# Altium footprint library transist_footp.PcbLib: 40 footprints (part 2 of 3)
Each footprint in its own frame and in the unit in brackets; x right, y up, seen from the top. Pads: shape width x height; smd on the part's side, far side on the other; paste and mask are expansions set on the pad; w line width, h text height; cw(c..) or ccw(c..) is an arc to the next point about the centre after c.
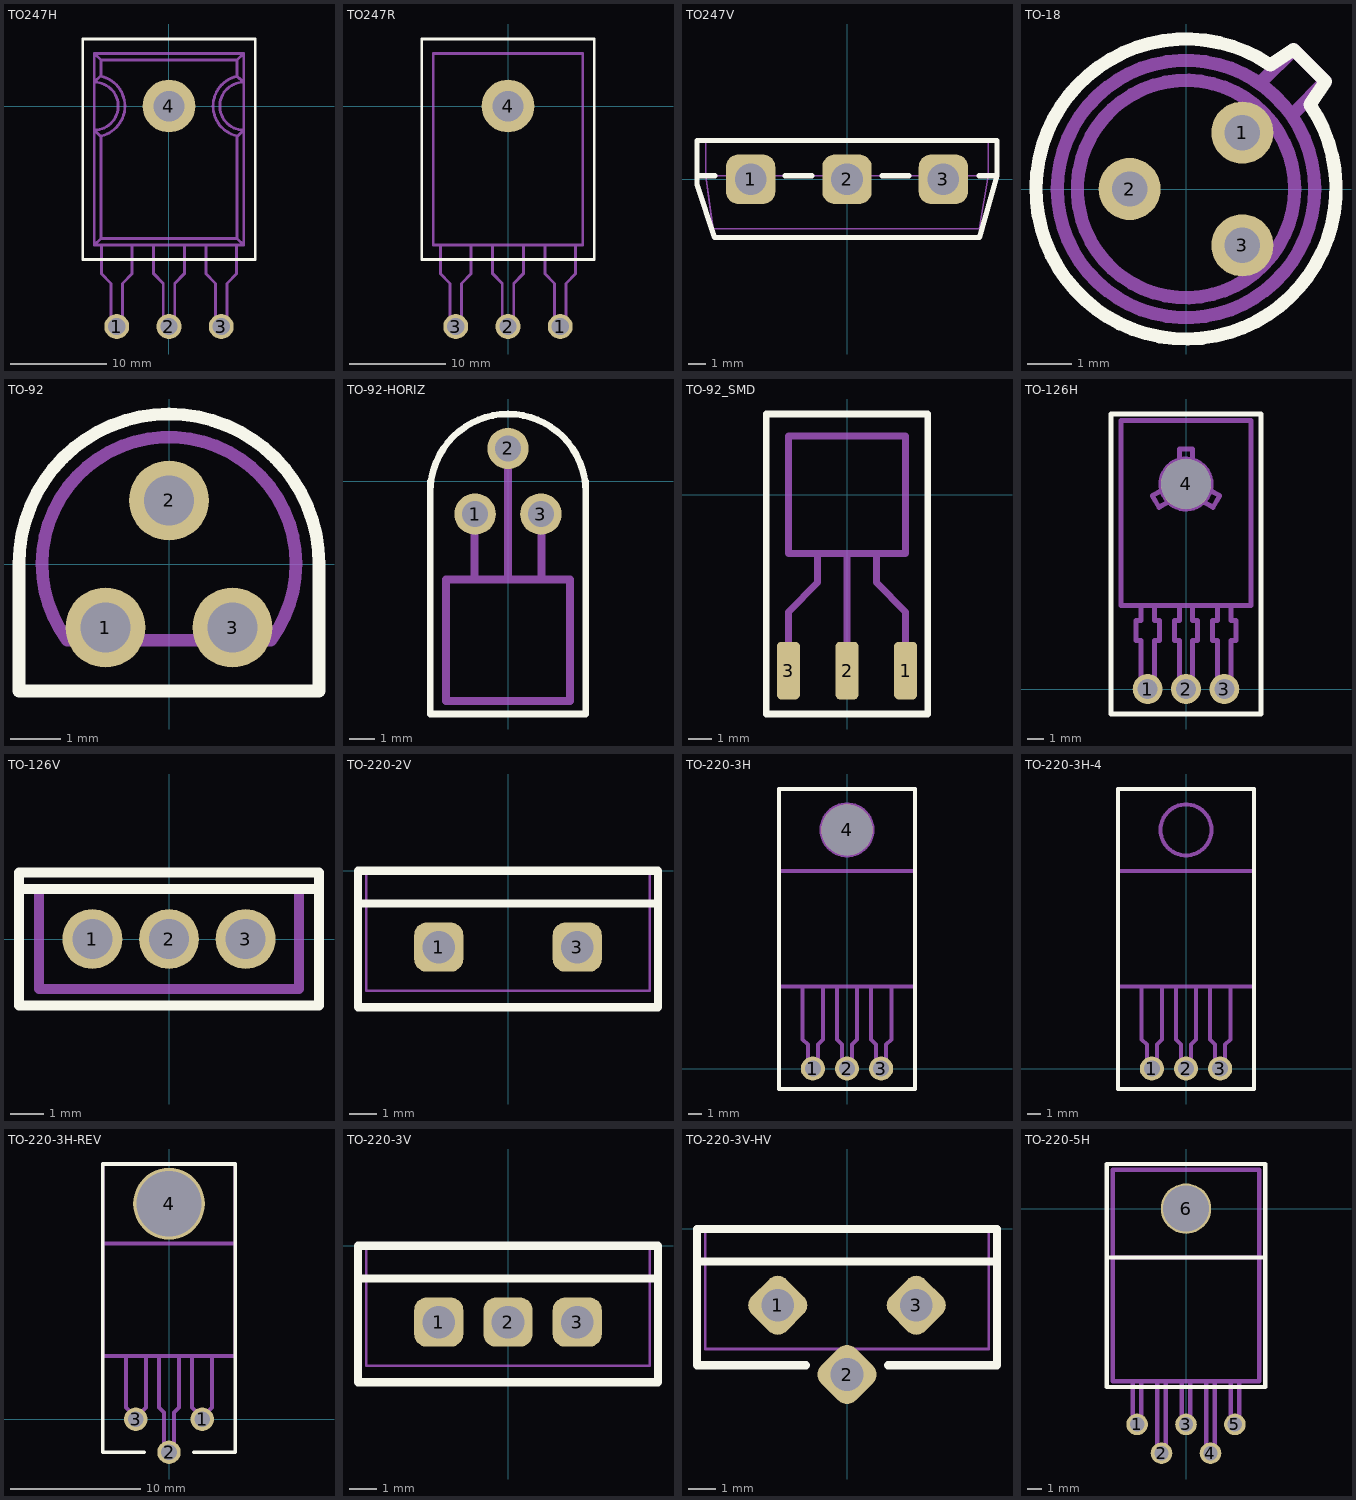
[diagram p1: the footprints below, top view; thin cyan lines are the x and y axes]

## TO247H [mm]
pads (4):
  round 2.6 hole 1.8: 1(-5.45,-23) 2(0,-23) 3(5.45,-23)
  round 5.5 hole 3.2 unplated: 4(0,0)
Top Overlay:
  lines w0.3: -9,-16 9,-16 9,7 -9,7 -9,-16
Mechanical 1:
  circle w0.3: c0,0 r1.8
  lines w0.3: -7.118,3.127 cw(c-7.8,0) -7.096,-3.122 ; -7.05,-14.5 -7.05,-17.5 -6.05,-18.5 -6.05,-23.5 -4.85,-23.5 -4.85,-18.5 -3.85,-17.5 -3.85,-14.5 ; -1.6,-14.5 -1.6,-17.5 -0.6,-18.5 -0.6,-23.5 0.6,-23.5 0.6,-18.5 1.6,-17.5 1.6,-14.5 ; 3.85,-14.5 3.85,-17.5 4.85,-18.5 4.85,-23.5 6.05,-23.5 6.05,-18.5 7.05,-17.5 7.05,-14.5 ; 7.1,3.1 7.8,2.5 ccw(c7.8,0) 7.8,-2.5 7.1,-3.2 7.1,-13.8 ; 7.1,3.2 7.1,4.8 ; 7.118,-3.127 cw(c7.8,0) 7.118,3.127 ; -7.8,-14.5 7.8,-14.5 ; -7.8,-14.5 -7.8,5.5 ; -7.8,-14.5 -7.1,-13.8 ; -7.8,5.5 7.8,5.5 ; -7.8,5.5 -7.1,4.8 ; -7.1,-13.8 7.1,-13.8 ; -7.1,-13.8 -7.1,-3.2 -7.8,-2.5 ccw(c-7.8,0) -7.8,2.5 -7.1,3.2 -7.1,4.8 ; -7.1,4.8 7.1,4.8 ; 7.1,-13.8 7.8,-14.5 ; 7.1,4.8 7.8,5.5 ; 7.8,-14.5 7.8,5.5

## TO247R [mm]
pads (4):
  round 2.6 hole 1.8: 1(5.45,-23) 2(0,-23) 3(-5.45,-23)
  round 5.5 hole 3.2 unplated: 4(0,0)
Top Overlay:
  lines w0.3: -9,-16 9,-16 9,7 -9,7 -9,-16
Mechanical 1:
  circle w0.3: c0,0 r1.8
  lines w0.3: -7.05,-14.5 -7.05,-17.5 -6.05,-18.5 -6.05,-23.5 -4.85,-23.5 -4.85,-18.5 -3.85,-17.5 -3.85,-14.5 ; -1.6,-14.5 -1.6,-17.5 -0.6,-18.5 -0.6,-23.5 0.6,-23.5 0.6,-18.5 1.6,-17.5 1.6,-14.5 ; 3.85,-14.5 3.85,-17.5 4.85,-18.5 4.85,-23.5 6.05,-23.5 6.05,-18.5 7.05,-17.5 7.05,-14.5 ; -7.8,-14.5 7.8,-14.5 7.8,5.5 -7.8,5.5 -7.8,-14.5

## TO247V [mm]
height 28
pads (3):
  rrect50% 2.8x2.8 hole 1.8: 1(-5.46,0) 2(0,0) 3(5.46,0)
Top Overlay:
  lines w0.3: -8.5,0.2 -7.5,0.2 ; -3.5,0.2 -2,0.2 ; 2,0.2 3.5,0.2 ; 7.5,0.2 8.5,0.2 ; 8.5,0.2 8.5,2.2 -8.5,2.2 -8.5,-0.3 -7.5,-3.3 7.5,-3.3 8.5,0.2
Mechanical 1:
  lines w0.1: -8,0.2 -7.6,-2.8 7.5,-2.8 8,0.2 ; -8,0.2 -8,2.2 8,2.2 8,0.2 ; -8,0.2 8,0.2
3D body: height 12, standoff -9, extent 4.9,-0.3 6.1,0.3
3D body: height 12, standoff -9, extent -6.1,-0.3 -4.9,0.3
3D body: height 12, standoff -9, extent -0.6,-0.3 0.6,0.3
3D body: height 28, standoff 7, extent -8,-2.8 8,0.5
3D body: height 28, standoff 7, extent -8,0.5 8,2.2

## TO-18 [mm]
pads (3):
  round 1.4 hole 0.8: 1(1.27,1.27) 2(-1.27,0) 3(1.27,-1.27)
Top Overlay:
  lines w0.3: 1.905,2.794 2.425,3.143 3.143,2.425 2.794,1.905 ; 1.906,2.794 ccw(c0,0) 2.794,1.906
Mechanical 1:
  circle w0.3: c0,0 r2.45
  circle w0.3: c0,0 r2.9
  lines w0.3: 1.706,2.425 2.425,3.143 3.143,2.425 2.425,1.706

## TO-92 [mm]
height 9
pads (3):
  round 1.6 hole 1: 1(-1.27,-1.27) 2(0,1.27) 3(1.27,-1.27)
Top Overlay:
  lines w0.254: -3,-2.54 3,-2.54 3,0 ccw(c0,0) -3,0 -3,-2.54
Mechanical 1:
  lines w0.254: -2.032,-1.524 2.032,-1.524 ; -2.031,-1.525 cw(c0,0) 2.031,-1.525
3D body: height 8.7, standoff 4, extent -2.37,-1.501 2.37,2.17

## TO-92-HORIZ [mm]
height 4
pads (3):
  round 1.6 hole 1: 1(-1.27,-1.27) 2(0,1.27) 3(1.27,-1.27)
Top Overlay:
  lines w0.254: -3,-0.4 cw(c0,-0.4) 3,-0.4 ; -3,0 -3,-9 3,-9 3,0
Mechanical 1:
  lines w0.3: -1.3,-3.8 -1.3,-1.3 ; 0,-3.8 0,1.3 ; 1.3,-3.8 1.3,-1.3 ; -2.4,-8.5 -2.4,-3.8 2.4,-3.8 2.4,-8.5 -2.4,-8.5
3D body: height 3.87, standoff 0.2, extent -2.37,-8.5 2.37,-3.8

## TO-92_SMD [mm]
height 4
pads (3):
  rrect40% 1x2.5 smd: 1(2.54,-7.62) 2(0,-7.62) 3(-2.54,-7.62)
Top Overlay:
  lines w0.3: -3.5,-9.5 3.5,-9.5 3.5,3.5 -3.5,3.5 -3.5,-9.5
Mechanical 1:
  lines w0.3: -2.54,-7.62 -2.54,-5.08 -1.27,-3.81 -1.27,-2.54 ; 0,-7.62 0,-2.54 ; 1.27,-2.54 1.27,-3.81 2.54,-5.08 2.54,-7.62 ; -2.54,-2.54 2.54,-2.54 2.54,2.54 -2.54,2.54 -2.54,-2.54
3D body: height 3.87, standoff 0.2, extent -2.37,-2.4 2.37,2.3

## TO-126H [mm]
pads (4):
  round 1.8 hole 1.2: 1(-2.3,0) 2(0,0) 3(2.3,0)
  round 3 hole 3 unplated: 4(0,12.3)
Top Overlay:
  lines w0.3: -4.5,-1.5 4.5,-1.5 4.5,16.5 -4.5,16.5 -4.5,-1.5
Mechanical 1:
  circle w0.3: c0,12.3 r1.5
  lines w0.3: -2.7,5 -2.7,4.1 -3,4.1 -3,2.9 -2.7,2.9 -2.7,0 -1.9,0 -1.9,2.9 -1.6,2.9 -1.6,4.1 -1.9,4.1 -1.9,5 ; -1.499,11.896 -2.019,11.596 -1.619,10.904 -1.099,11.204 ; -0.4,5 -0.4,4.1 -0.7,4.1 -0.7,2.9 -0.4,2.9 -0.4,0 0.4,0 0.4,2.9 0.7,2.9 0.7,4.1 0.4,4.1 0.4,5 ; -0.4,13.8 -0.4,14.4 0.4,14.4 0.4,13.8 ; 1.099,11.204 1.619,10.904 2.019,11.596 1.499,11.896 ; 1.9,5 1.9,4.1 1.6,4.1 1.6,2.9 1.9,2.9 1.9,0 2.7,0 2.7,2.9 3,2.9 3,4.1 2.7,4.1 2.7,5 ; -3.9,5 3.9,5 3.9,16.1 -3.9,16.1 -3.9,5

## TO-126V [mm]
pads (3):
  round 1.8 hole 1.2: 1(-2.3,0) 2(0,0) 3(2.3,0)
Top Overlay:
  lines w0.3: -4.5,1.5 4.5,1.5 ; -4.5,-2 -4.5,2 4.5,2 4.5,-2 -4.5,-2
Mechanical 1:
  lines w0.3: -3.9,-1.5 -3.9,1.5 3.9,1.5 3.9,-1.5 -3.9,-1.5

## TO-220-2V [mm]
height 23
pads (2):
  rrect50% 1.8x1.8 hole 1.2: 1(-2.54,-2.8) 3(2.54,-2.8)
Top Overlay:
  lines w0.3: -5.5,-1.2 5.5,-1.2 ; -5.5,-5 5.5,-5 5.5,0 -5.5,0 -5.5,-5
Mechanical 1:
  lines w0.1: -5.2,-1.276 5.2,-1.276 ; -5.2,-4.4 5.2,-4.4 5.2,-2.68 5.2,-0.006 -5.2,-0.006 -5.2,-4.4
3D body: height 9, standoff -6, extent 2.1,-3.05 3.1,-2.55
3D body: height 9, standoff -6, extent -3.1,-3.05 -2.1,-2.55
3D body: height 16.5, standoff 8, extent -5.2,-4.4 5.2,-0.1
3D body: height 23, standoff 8.1, extent -5.1,-1.3 5.1,0

## TO-220-3H [mm]
pads (4):
  round 1.8 hole 1.2: 1(-2.54,0) 2(0,0) 3(2.54,0)
  round 3.8 hole 3.8 unplated: 4(0,17.78)
Top Overlay:
  lines w0.3: -5.08,-1.524 -5.08,6.096 -5.08,20.828 5.08,20.828 5.08,6.096 5.08,-1.524 -5.08,-1.524
Mechanical 1:
  circle w0.3: c0,17.78 r1.9
  lines w0.3: -5.08,14.732 5.08,14.732 ; -3.302,6.096 -3.302,2.159 -2.921,1.778 -2.921,0 -2.159,0 -2.159,1.778 -1.778,2.159 -1.778,6.096 ; -0.762,6.096 -0.762,2.159 -0.381,1.778 -0.381,0 0.381,0 0.381,1.778 0.762,2.159 0.762,6.096 ; 1.778,6.096 1.778,2.159 2.159,1.778 2.159,0 2.921,0 2.921,1.778 3.302,2.159 3.302,6.096 ; -5.08,6.096 -5.08,20.828 5.08,20.828 5.08,6.096 -5.08,6.096

## TO-220-3H-4 [mm]
pads (3):
  round 1.8 hole 1.2: 1(-2.54,0) 2(0,0) 3(2.54,0)
Top Overlay:
  lines w0.3: -5.08,-1.524 -5.08,6.096 -5.08,20.828 5.08,20.828 5.08,6.096 5.08,-1.524 -5.08,-1.524
Mechanical 1:
  circle w0.3: c0,17.78 r1.9
  lines w0.3: -5.08,14.732 5.08,14.732 ; -3.302,6.096 -3.302,2.159 -2.921,1.778 -2.921,0 -2.159,0 -2.159,1.778 -1.778,2.159 -1.778,6.096 ; -0.762,6.096 -0.762,2.159 -0.381,1.778 -0.381,0 0.381,0 0.381,1.778 0.762,2.159 0.762,6.096 ; 1.778,6.096 1.778,2.159 2.159,1.778 2.159,0 2.921,0 2.921,1.778 3.302,2.159 3.302,6.096 ; -5.08,6.096 -5.08,20.828 5.08,20.828 5.08,6.096 -5.08,6.096

## TO-220-3H-REV [mm]
pads (4):
  round 1.8 hole 1.2: 1(2.54,0) 2(0,-2.54) 3(-2.54,0)
  round 5.5 hole 5 unplated: 4(0,16.51)
Top Overlay:
  lines w0.3: -1.905,-2.54 -5.08,-2.54 -5.08,4.826 -5.08,19.558 5.08,19.558 5.08,4.826 5.08,-2.54 1.905,-2.54
Mechanical 1:
  circle w0.3: c0,16.51 r1.9
  lines w0.3: -5.08,13.462 5.08,13.462 ; -3.302,4.826 -3.302,0.889 -2.921,0.508 -2.921,0 -2.159,0 -2.159,0.508 -1.778,0.889 -1.778,4.826 ; -0.762,4.826 -0.762,0.889 -0.381,0.508 -0.381,-2.54 0.381,-2.54 0.381,0.508 0.762,0.889 0.762,4.826 ; 1.778,4.826 1.778,0.889 2.159,0.508 2.159,0 2.921,0 2.921,0.508 3.302,0.889 3.302,4.826 ; -5.08,4.826 5.08,4.826 5.08,19.558 -5.08,19.558 -5.08,4.826

## TO-220-3V [mm]
height 23
pads (3):
  rrect50% 1.8x1.8 hole 1.2: 1(-2.54,-2.8) 2(0,-2.8) 3(2.54,-2.8)
Top Overlay:
  lines w0.3: -5.5,-1.2 5.5,-1.2 ; -5.5,-5 -5.5,0 5.5,0 5.5,-5 -5.5,-5
Mechanical 1:
  lines w0.1: -5.2,-1.276 5.2,-1.276 ; -5.2,-4.4 -5.2,-0.006 5.2,-0.006 5.2,-2.68 5.2,-4.4 -5.2,-4.4
3D body: height 23, standoff 8.1, extent -5.1,-1.3 5.1,0
3D body: height 16.5, standoff 8, extent -5.2,-4.4 5.2,-0.1
3D body: height 9, standoff -6, extent -3.1,-3.05 -2.1,-2.55
3D body: height 9, standoff -6, extent -0.5,-3.05 0.5,-2.55
3D body: height 9, standoff -6, extent 2.1,-3.05 3.1,-2.55

## TO-220-3V-HV [mm]
height 23
pads (3):
  rrect50% 1.8x1.8 hole 1.2 rot 45: 1(-2.54,-2.8) 2(0,-5.34) 3(2.54,-2.8)
Top Overlay:
  lines w0.3: -5.5,-1.2 5.5,-1.2 ; -1.5,-5 -5.5,-5 -5.5,0 5.5,0 5.5,-5 1.5,-5
Mechanical 1:
  lines w0.1: -5.2,-1.276 5.2,-1.276 ; -5.2,-4.4 5.2,-4.4 5.2,-2.68 5.2,-0.006 -5.2,-0.006 -5.2,-4.4
3D body: height 9, standoff -6, extent 2.1,-3.05 3.1,-2.55
3D body: height 9, standoff -6, extent -0.5,-3.05 0.5,-2.55
3D body: height 9, standoff -6, extent -3.1,-3.05 -2.1,-2.55
3D body: height 16.5, standoff 8, extent -5.2,-4.4 5.2,-0.1
3D body: height 23, standoff 8.1, extent -5.1,-1.3 5.1,0

## TO-220-5H [mm]
pads (6):
  round 1.5 hole 1: 1(-3.4,-15) 2(-1.7,-17) 3(0,-15) 4(1.7,-17) 5(3.4,-15)
  round 3.5 hole 3.2 unplated: 6(0,0)
Top Overlay:
  lines w0.3: -5.5,-3.4 5.5,-3.4 ; -5.5,-12.4 5.5,-12.4 5.5,3.1 -5.5,3.1 -5.5,-12.4
Mechanical 1:
  lines w0.3: -5.1,-3.4 5.1,-3.4 ; -3.7,-12 -3.7,-15 -3.1,-15 -3.1,-12 ; -2,-12 -2,-17 -1.4,-17 -1.4,-12 ; -0.3,-12 -0.3,-15 0.3,-15 0.3,-12 ; 1.4,-12 1.4,-17 2,-17 2,-12 ; 3.1,-12 3.1,-15 3.7,-15 3.7,-12 ; -5.1,-12 5.1,-12 5.1,2.7 -5.1,2.7 -5.1,-12